# Altium schematic symbol library ECS-ECX-71-4.SchLib: 1 symbol
Pins are listed as number, name and electrical type; pins without a type are passive.

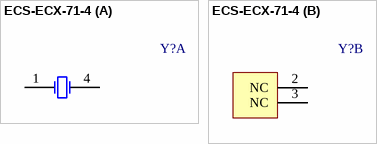
[diagram p0: symbol ECS-ECX-71-4]

## ECS-ECX-71-4
designator Y?
part A pins: 1 X1, 4 X2
part B pins: 2 NC, 3 NC